# EAGLE library part 12X2_SMD_2.54MM_HEADER (library SMD_headers)
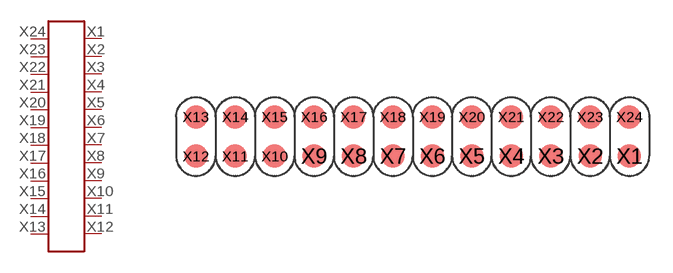
[diagram p1: symbol with the pads of 12X2_HEADER; footprint 12X2_HEADER]

Designator prefix -

## 12X2_SMD_2.54MM_HEADER  [12X2_HEADER]
X1  P$1
X2  P$2
X3  P$3
X4  P$4
X5  P$5
X6  P$6
X7  P$7
X8  P$8
X9  P$9
X10  P$10
X11  P$11
X12  P$12
X13  P$13
X14  P$14
X15  P$15
X16  P$16
X17  P$17
X18  P$18
X19  P$19
X20  P$20
X21  P$21
X22  P$22
X23  P$23
X24  P$24

## Footprint 12X2_HEADER (pad centres in mm)
smd 1.524 x 1.524: X1 13.97,-1.27; X2 11.43,-1.27; X3 8.89,-1.27; X4 6.35,-1.27; X5 3.81,-1.27; X6 1.27,-1.27; X7 -1.27,-1.27; X8 -3.81,-1.27; X9 -6.35,-1.27; X10 -8.89,-1.27; X11 -11.43,-1.27; X12 -13.97,-1.27; X13 -13.97,1.27; X14 -11.43,1.27; X15 -8.89,1.27; X16 -6.35,1.27; X17 -3.81,1.27; X18 -1.27,1.27; X19 1.27,1.27; X20 3.81,1.27; X21 6.35,1.27; X22 8.89,1.27; X23 11.43,1.27; X24 13.97,1.27